# Altium footprint library Infineon Power MOSFET.PcbLib: 137 footprints (part 1 of 9)
Each footprint in its own frame and in the unit in brackets; x right, y up, seen from the top. Pads: shape width x height; smd on the part's side, far side on the other; paste and mask are expansions set on the pad; w line width, h text height; cw(c..) or ccw(c..) is an arc to the next point about the centre after c.
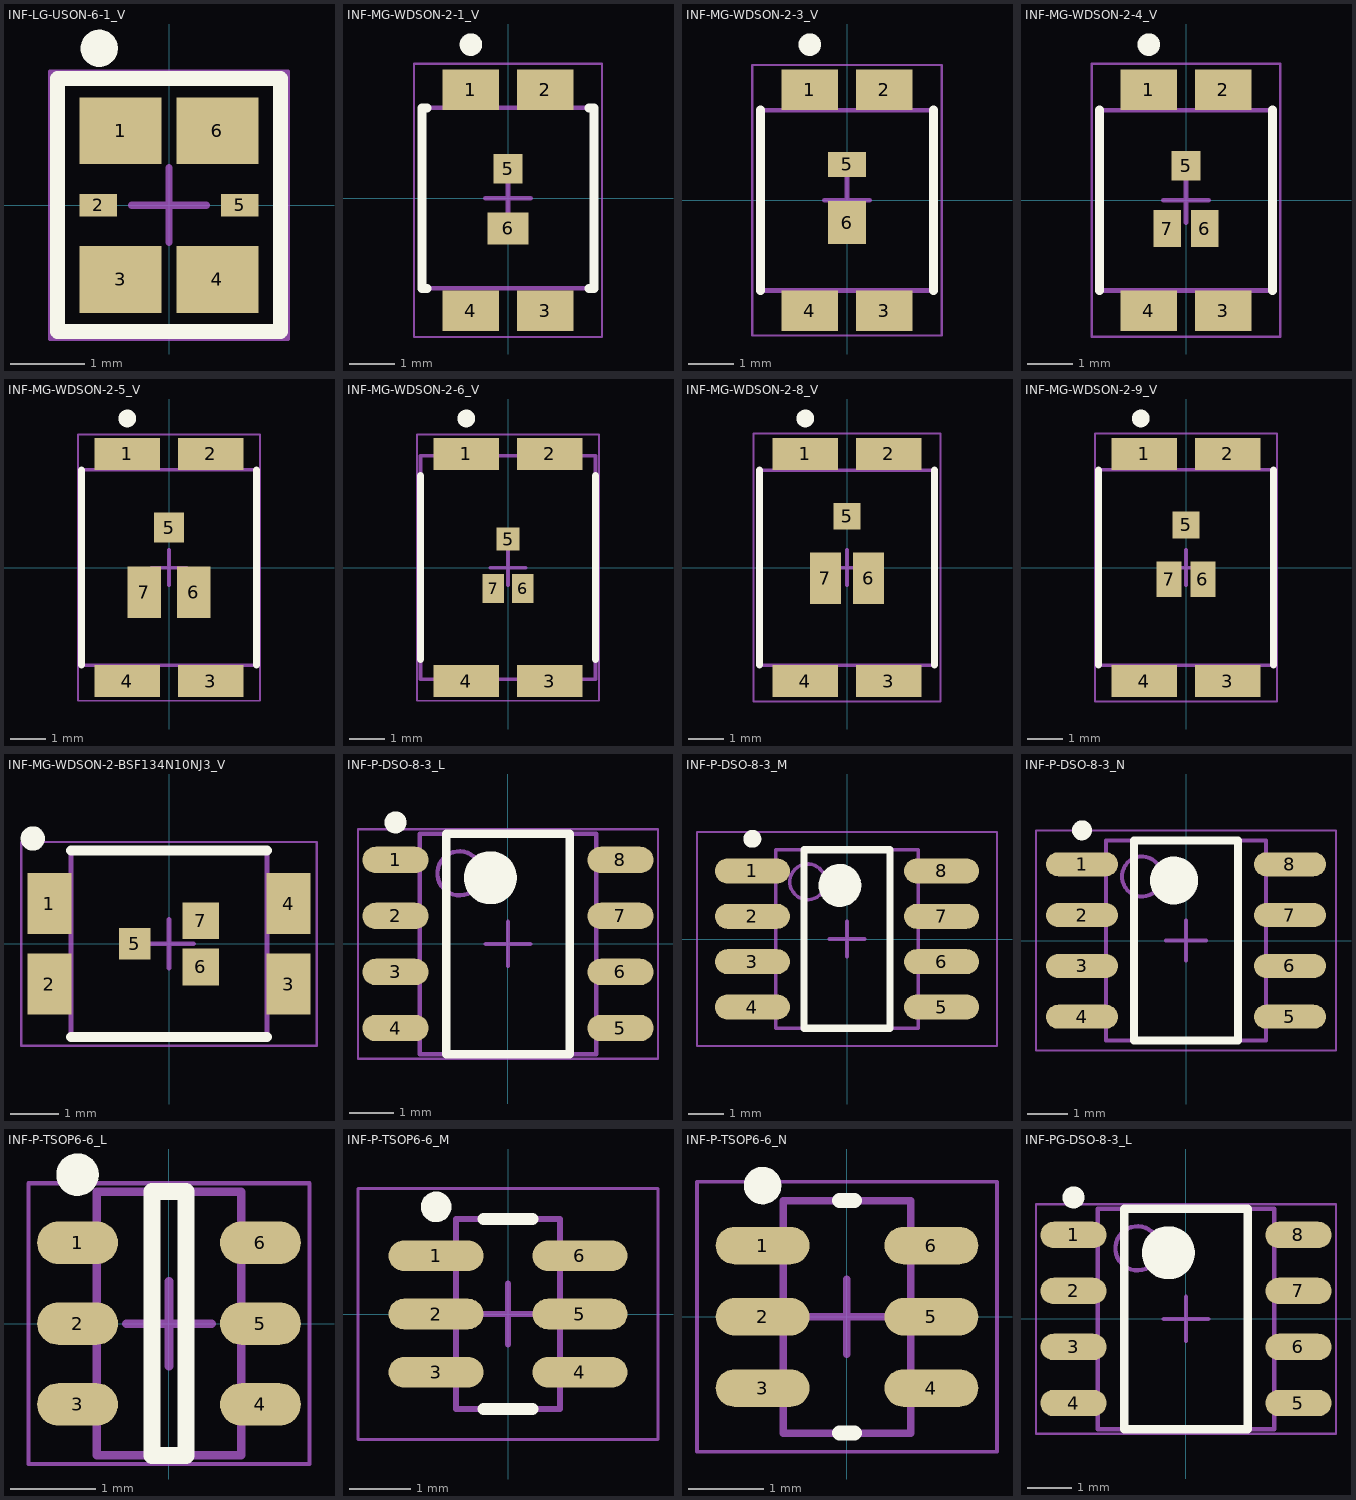
[diagram p0: the footprints below, top view; thin cyan lines are the x and y axes]

## INF-LG-USON-6-1_V [mm] "USON, 6-Leads, Body 3.4x3mm"
height 0.65
pads (6):
  rect 1.1x0.9 smd mask+0.102: 1(-0.65,1) 3(-0.65,-1) 4(0.65,-1) 6(0.65,1)
  rect 0.5x0.3 smd mask+0.102: 2(-0.95,0) 5(0.95,0)
Top Overlay:
  circle w0.25: c-0.938,2.108 r0.125
  lines w0.2: -1.5,-1.7 -1.5,1.7 1.5,1.7 1.5,-1.7 -1.5,-1.7
Mechanical 13:
  lines w0.1: -1.5,-1.7 1.5,-1.7 1.5,1.7 -1.5,1.7 -1.5,-1.7
Mechanical 15:
  lines w0.05: -1.6,-1.8 -1.6,1.8 1.6,1.8 1.6,-1.8 -1.6,-1.8
  lines w0.1: -0.5,0 0.5,0 ; 0,-0.5 0,0.5
3D body: height 0.65, standoff 0.06, extent -1.5,-1.7 1.5,1.7

## INF-MG-WDSON-2-1_V [mm] "WDSON, 6-Leads, Body 4.015x3.825mm"
height 0.7
pads (6):
  rect 1.25x0.9 smd: 1(-0.825,2.41) 2(0.825,2.41) 3(0.825,-2.505) 4(-0.825,-2.505)
  rect 0.65x0.65 smd: 5(0,0.65)
  rect 0.9x0.7 smd: 6(0,-0.675)
Top Overlay:
  circle w0.25: c-0.825,3.41 r0.125
  lines w0.2: -1.8,-2.007 -1.913,-2.007 -1.913,2.007 -1.8,2.007 ; 1.8,-2.007 1.913,-2.007 1.913,2.007 1.8,2.007
Mechanical 13:
  lines w0.1: -1.913,-2.007 1.913,-2.007 1.913,2.007 -1.913,2.007 -1.913,-2.007
Mechanical 15:
  lines w0.05: -2.087,-3.085 -2.087,0 -2.087,2.985 2.087,2.985 2.087,0 2.087,-3.085 -2.087,-3.085
  lines w0.1: -0.5,0 0.5,0 ; 0,-0.5 0,0.5
3D body: height 0.7, standoff 0, extent -1.913,-2.007 1.913,2.007

## INF-MG-WDSON-2-3_V [mm] "WDDSON, 6-Leads, Body 4x3.83mm"
height 0.65
pads (6):
  rect 1.25x0.9 smd: 1(-0.825,2.45) 2(0.825,2.45) 3(0.825,-2.45) 4(-0.825,-2.45)
  rect 0.85x0.55 smd: 5(0,0.795)
  rect 0.85x0.95 smd: 6(0,-0.495)
Top Overlay:
  circle w0.25: c-0.825,3.45 r0.125
  lines w0.2: -1.915,-2 -1.915,2 ; 1.915,-2 1.915,2
Mechanical 13:
  lines w0.1: -1.915,-2 -1.915,2 1.915,2 1.915,-2 -1.915,-2
Mechanical 15:
  lines w0.05: -2.1,-3 2.1,-3 2.1,3 -2.1,3 -2.1,-3
  lines w0.1: -0.5,0 0.5,0 ; 0,-0.5 0,0.5
3D body: height 0.65, standoff 0.02, extent -1.915,-2 1.915,2

## INF-MG-WDSON-2-4_V [mm] "WDSON, 7-Leads, Body 4x3.83mm"
height 0.68
pads (7):
  rect 1.25x0.9 smd: 1(-0.825,2.45) 2(0.825,2.45) 3(0.825,-2.45) 4(-0.825,-2.45)
  rect 0.65x0.65 smd: 5(0,0.765)
  rect 0.6x0.82 smd: 6(0.415,-0.63) 7(-0.415,-0.63)
Top Overlay:
  circle w0.25: c-0.825,3.45 r0.125
  lines w0.2: -1.915,-2 -1.915,2 ; 1.915,-2 1.915,2
Mechanical 13:
  lines w0.1: -1.915,-2 -1.915,2 1.915,2 1.915,-2 -1.915,-2
Mechanical 15:
  lines w0.05: -2.09,-3.025 -2.09,3.025 2.09,3.025 2.09,-3.025 -2.09,-3.025
  lines w0.1: -0.5,0 0.5,0 ; 0,-0.5 0,0.5
3D body: height 0.68, standoff 0.02, extent -1.915,-2 1.915,2

## INF-MG-WDSON-2-5_V [mm] "WDSON, 7-Leads, Body 5.5x4.93mm"
height 0.65
pads (7):
  rect 1.85x0.9 smd: 1(-1.175,3.2) 2(1.175,3.2) 3(1.175,-3.2) 4(-1.175,-3.2)
  rect 0.85x0.85 smd: 5(0,1.125)
  rect 0.95x1.45 smd: 6(0.7,-0.695) 7(-0.7,-0.695)
Top Overlay:
  circle w0.25: c-1.175,4.2 r0.125
  lines w0.2: -2.465,-2.75 -2.465,2.75 ; 2.465,-2.75 2.465,2.75
Mechanical 13:
  lines w0.1: -2.465,-2.75 2.465,-2.75 2.465,2.75 -2.465,2.75 -2.465,-2.75
Mechanical 15:
  lines w0.05: -2.565,-3.75 -2.565,3.75 2.565,3.75 2.565,-3.75 -2.565,-3.75
  lines w0.1: -0.5,0 0.5,0 ; 0,-0.5 0,0.5
3D body: height 0.65, standoff 0.02, extent -2.465,-2.75 2.465,2.75

## INF-MG-WDSON-2-6_V [mm] "WDSON, 7-Leads, Body 4.93x6.3mm"
height 0.7
pads (7):
  rect 1.85x0.9 smd: 1(-1.175,3.2) 2(1.175,3.2) 3(1.175,-3.2) 4(-1.175,-3.2)
  rect 0.65x0.65 smd: 5(0,0.799)
  rect 0.6x0.825 smd: 6(0.415,-0.593) 7(-0.415,-0.593)
Top Overlay:
  circle w0.25: c-1.175,4.2 r0.125
  lines w0.2: -2.465,-2.587 -2.465,2.587 ; 2.465,-2.587 2.465,2.587
Mechanical 13:
  lines w0.1: -2.465,-3.15 2.465,-3.15 2.465,3.15 -2.465,3.15 -2.465,-3.15
Mechanical 15:
  lines w0.05: -2.565,-3.75 2.565,-3.75 2.565,3.75 -2.565,3.75 -2.565,-3.75
  lines w0.1: -0.5,0 0.5,0 ; 0,-0.5 0,0.5
3D body: height 0.7, standoff 0.02, extent -2.462,-3.15 2.462,3.15

## INF-MG-WDSON-2-8_V [mm] "WDSON, 7-Leads, Body 5.5x4.93mm"
height 0.68
pads (7):
  rect 1.85x0.9 smd: 1(-1.175,3.205) 2(1.175,3.205) 3(1.175,-3.205) 4(-1.175,-3.205)
  rect 0.75x0.75 smd: 5(0,1.45)
  rect 0.87x1.45 smd: 6(0.61,-0.3) 7(-0.61,-0.3)
Top Overlay:
  circle w0.25: c-1.175,4.205 r0.125
  lines w0.2: -2.465,-2.75 -2.465,2.75 ; 2.465,-2.75 2.465,2.75
Mechanical 13:
  lines w0.1: -2.465,-2.75 -2.465,2.75 2.465,2.75 2.465,-2.75 -2.465,-2.75
Mechanical 15:
  lines w0.05: -2.64,-3.78 -2.64,3.78 2.64,3.78 2.64,-3.78 -2.64,-3.78
  lines w0.1: -0.5,0 0.5,0 ; 0,-0.5 0,0.5
3D body: height 0.68, standoff 0.02, extent -2.465,-2.75 2.465,2.75

## INF-MG-WDSON-2-9_V [mm] "WDSON, 7-Leads, Body 5.5x4.93mm"
height 0.65
pads (7):
  rect 1.85x0.9 smd: 1(-1.175,3.2) 2(1.175,3.2) 3(1.175,-3.2) 4(-1.175,-3.2)
  rect 0.75x0.75 smd: 5(0,1.2)
  rect 0.7x1 smd: 6(0.475,-0.325) 7(-0.475,-0.325)
Top Overlay:
  circle w0.25: c-1.272,4.2 r0.125
  lines w0.2: -2.465,-2.75 -2.465,2.75 ; 2.465,-2.75 2.465,2.75
Mechanical 13:
  lines w0.1: -2.465,-2.75 2.465,-2.75 2.465,2.75 -2.465,2.75 -2.465,-2.75
Mechanical 15:
  lines w0.05: -2.565,-3.775 2.565,-3.775 2.565,3.775 -2.565,3.775 -2.565,-3.775
  lines w0.1: -0.5,0 0.5,0 ; 0,-0.5 0,0.5
3D body: height 0.65, standoff 0.02, extent -2.465,-2.75 2.465,2.75

## INF-MG-WDSON-2-BSF134N10NJ3_V [mm] "WDSON, 7-Leads, Body 4.015x3.825mm"
height 0.7
pads (7):
  rect 0.9x1.25 smd: 1(-2.45,0.825) 2(-2.45,-0.825) 3(2.45,-0.825) 4(2.45,0.825)
  rect 0.65x0.65 smd: 5(-0.7,0)
  rect 0.75x0.75 smd: 6(0.65,-0.475) 7(0.65,0.475)
Top Overlay:
  circle w0.25: c-2.792,2.159 r0.125
  lines w0.2: -2.007,-1.913 2.007,-1.913 ; -2.007,1.913 2.007,1.913
Mechanical 13:
  lines w0.1: -2.007,-1.913 -2.007,1.913 2.007,1.913 2.007,-1.913 -2.007,-1.913
Mechanical 15:
  lines w0.05: -3.025,-2.087 -3.025,2.087 3.025,2.087 3.025,-2.087 -3.025,-2.087
  lines w0.1: -0.5,0 0.5,0 ; 0,-0.5 0,0.5
3D body: height 0.7, standoff 0, extent -2.007,-1.913 2.007,1.913

## INF-P-DSO-8-3_L [mm] "SOP, 8-Leads, Body 4.9x3.9mm, Pitch 1.27mm, IPC High Density"
height 1.75
pads (8):
  oval 1.5x0.6 smd: 1(-2.55,1.905) 2(-2.55,0.635) 3(-2.55,-0.635) 4(-2.55,-1.905) 5(2.55,-1.905) 6(2.55,-0.635) 7(2.55,0.635) 8(2.55,1.905)
Top Overlay:
  circle w0.25: c-2.55,2.755 r0.125
  circle w0.6: c-0.4,1.5 r0.3
  lines w0.2: -1.4,-2.5 -1.4,2.5 1.4,2.5 1.4,-2.5 -1.4,-2.5
Mechanical 13:
  circle w0.1: c-1.1,1.6 r0.5
  lines w0.1: -2,-2.5 -2,2.5 2,2.5 2,-2.5 -2,-2.5
Mechanical 15:
  lines w0.05: -3.4,-2.6 -3.4,2.6 3.4,2.6 3.4,-2.6 -3.4,-2.6
  lines w0.1: -0.5,0 0.5,0 ; 0,-0.5 0,0.5
3D body: height 1.75, standoff 0.1, extent -2,-2.5 2,2.5

## INF-P-DSO-8-3_M [mm] "SOP, 8-Leads, Body 4.9x3.9mm, Pitch 1.27mm, IPC Low Density"
height 1.75
pads (8):
  oval 2.1x0.7 smd: 1(-2.65,1.905) 2(-2.65,0.635) 3(-2.65,-0.635) 4(-2.65,-1.905) 5(2.65,-1.905) 6(2.65,-0.635) 7(2.65,0.635) 8(2.65,1.905)
Top Overlay:
  circle w0.25: c-2.65,2.805 r0.125
  circle w0.6: c-0.2,1.5 r0.3
  lines w0.2: -1.2,-2.5 -1.2,2.5 1.2,2.5 1.2,-2.5 -1.2,-2.5
Mechanical 13:
  circle w0.1: c-1.1,1.6 r0.5
  lines w0.1: -2,-2.5 -2,2.5 2,2.5 2,-2.5 -2,-2.5
Mechanical 15:
  lines w0.05: -4.2,-3 -4.2,3 4.2,3 4.2,-3 -4.2,-3
  lines w0.1: -0.5,0 0.5,0 ; 0,-0.5 0,0.5
3D body: height 1.75, standoff 0.1, extent -2,-2.5 2,2.5

## INF-P-DSO-8-3_N [mm] "SOP, 8-Leads, Body 4.9x3.9mm, Pitch 1.27mm, IPC Medium Density"
height 1.75
pads (8):
  oval 1.8x0.6 smd: 1(-2.6,1.905) 2(-2.6,0.635) 3(-2.6,-0.635) 4(-2.6,-1.905) 5(2.6,-1.905) 6(2.6,-0.635) 7(2.6,0.635) 8(2.6,1.905)
Top Overlay:
  circle w0.25: c-2.6,2.755 r0.125
  circle w0.6: c-0.3,1.5 r0.3
  lines w0.2: -1.3,-2.5 -1.3,2.5 1.3,2.5 1.3,-2.5 -1.3,-2.5
Mechanical 13:
  circle w0.1: c-1.1,1.6 r0.5
  lines w0.1: -2,-2.5 -2,2.5 2,2.5 2,-2.5 -2,-2.5
Mechanical 15:
  lines w0.05: -3.75,-2.75 -3.75,2.75 3.75,2.75 3.75,-2.75 -3.75,-2.75
  lines w0.1: -0.5,0 0.5,0 ; 0,-0.5 0,0.5
3D body: height 1.75, standoff 0.1, extent -2,-2.5 2,2.5

## INF-P-TSOP6-6_L [mm] "SOP, 6-Leads, Body 2.9x1.6mm, Pitch 0.95mm, IPC High Density"
height 1.1
pads (6):
  oval 0.95x0.5 smd: 1(-1.075,0.95) 2(-1.075,0) 3(-1.075,-0.95) 4(1.075,-0.95) 5(1.075,0) 6(1.075,0.95)
Top Overlay:
  circle w0.25: c-1.075,1.75 r0.125
  lines w0.2: -0.2,-1.55 -0.2,1.55 0.2,1.55 0.2,-1.55 -0.2,-1.55
Mechanical 13:
  lines w0.1: -0.85,-1.55 -0.85,1.55 0.85,1.55 0.85,-1.55 -0.85,-1.55
Mechanical 15:
  lines w0.05: -1.65,-1.65 -1.65,1.65 1.65,1.65 1.65,-1.65 -1.65,-1.65
  lines w0.1: -0.5,0 0.5,0 ; 0,-0.5 0,0.5
3D body: height 1.1, standoff 0.1, extent -0.85,-1.55 0.85,1.55

## INF-P-TSOP6-6_M [mm] "SOP, 6-Leads, Body 2.9x1.6mm, Pitch 0.95mm, IPC Low Density"
height 1.1
pads (6):
  oval 1.55x0.5 smd: 1(-1.175,0.95) 2(-1.175,0) 3(-1.175,-0.95) 4(1.175,-0.95) 5(1.175,0) 6(1.175,0.95)
Top Overlay:
  circle w0.25: c-1.175,1.75 r0.125
  lines w0.2: -0.4,-1.55 0.4,-1.55 ; -0.4,1.55 0.4,1.55
Mechanical 13:
  lines w0.1: -0.85,-1.55 0.85,-1.55 0.85,1.55 -0.85,1.55 -0.85,-1.55
Mechanical 15:
  lines w0.05: -2.45,-2.05 2.45,-2.05 2.45,2.05 -2.45,2.05 -2.45,-2.05
  lines w0.1: -0.5,0 0.5,0 ; 0,-0.5 0,0.5
3D body: height 1.1, standoff 0.1, extent -0.85,-1.55 0.85,1.55

## INF-P-TSOP6-6_N [mm] "SOP, 6-Leads, Body 2.9x1.6mm, Pitch 0.95mm, IPC Medium Density"
height 1.1
pads (6):
  oval 1.25x0.5 smd: 1(-1.125,0.95) 2(-1.125,0) 3(-1.125,-0.95) 4(1.125,-0.95) 5(1.125,0) 6(1.125,0.95)
Top Overlay:
  circle w0.25: c-1.125,1.75 r0.125
  lines w0.2: -0.1,-1.55 0.1,-1.55 ; -0.1,1.55 0.1,1.55
Mechanical 13:
  lines w0.1: -0.85,-1.55 -0.85,1.55 0.85,1.55 0.85,-1.55 -0.85,-1.55
Mechanical 15:
  lines w0.05: -2,-1.8 -2,1.8 2,1.8 2,-1.8 -2,-1.8
  lines w0.1: -0.5,0 0.5,0 ; 0,-0.5 0,0.5
3D body: height 1.1, standoff 0.1, extent -0.85,-1.55 0.85,1.55

## INF-PG-DSO-8-3_L [mm] "SOP, 8-Leads, Body 4.9x3.9mm, Pitch 1.27mm, IPC High Density"
height 1.75
pads (8):
  oval 1.5x0.6 smd: 1(-2.55,1.905) 2(-2.55,0.635) 3(-2.55,-0.635) 4(-2.55,-1.905) 5(2.55,-1.905) 6(2.55,-0.635) 7(2.55,0.635) 8(2.55,1.905)
Top Overlay:
  circle w0.6: c-0.4,1.5 r0.3
  circle w0.25: c-2.55,2.755 r0.125
  lines w0.2: -1.4,-2.5 1.4,-2.5 1.4,2.5 -1.4,2.5 -1.4,-2.5
Mechanical 13:
  circle w0.1: c-1.1,1.6 r0.5
  lines w0.1: -2,-2.5 2,-2.5 2,2.5 -2,2.5 -2,-2.5
Mechanical 15:
  lines w0.05: -3.4,-2.6 3.4,-2.6 3.4,2.6 -3.4,2.6 -3.4,-2.6
  lines w0.1: -0.5,0 0.5,0 ; 0,-0.5 0,0.5
3D body: height 1.75, standoff 0.1, extent -2,-2.5 2,2.5